# Altium schematic symbol library MotorController.SchLib: 5 symbols
Pins are listed as number, name and electrical type; pins without a type are passive.

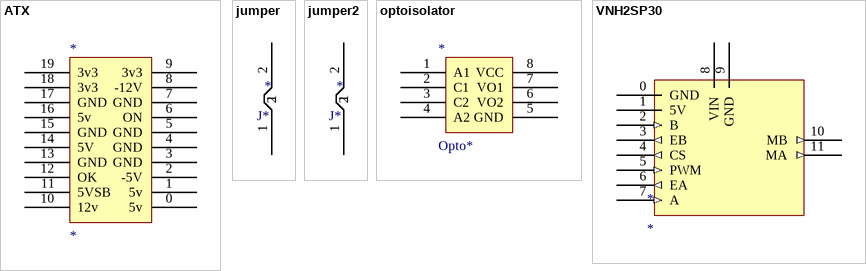
[diagram p0: symbols ATX to VNH2SP30]

## ATX
designator *
footprint ATX
pins: 0 5v, 1 5v, 2 -5V, 3 GND, 4 GND, 5 GND, 6 ON, 7 GND, 8 -12V, 9 3v3, 10 12v, 11 5VSB, 12 OK, 13 GND, 14 5V, 15 GND, 16 5v, 17 GND, 18 3v3, 19 3v3

## jumper
designator *, comment J*
footprint Jumper
pins: 1, 2

## jumper2
designator *, comment J*
footprint Jumper2
pins: 1, 2

## optoisolator
designator *, comment Opto*
footprint DIP-8 (DIP, 8-Pin, Row Spacing 7.62 mm, Pitch 2.54 mm)
pins: 1 A1, 2 C1, 3 C2, 4 A2, 5 GND, 6 VO2, 7 VO1, 8 VCC

## VNH2SP30
designator *
footprint VNH2SP30 (Motor Controller, H-Bridge, USST)
pins: 0 GND (power), 1 5V (power), 2 B (in), 3 EB (out), 4 CS (out), 5 PWM (in), 6 EA (out), 7 A (in), 8 VIN (power), 9 GND (power), 10 MB (out), 11 MA (out)